# Altium footprint library BGA25CP40A5X5_201X201X60B26N.PcbLib: 1 footprints
Each footprint in its own frame and in the unit in brackets; x right, y up, seen from the top. Pads: shape width x height; smd on the part's side, far side on the other; paste and mask are expansions set on the pad; w line width, h text height; cw(c..) or ccw(c..) is an arc to the next point about the centre after c.
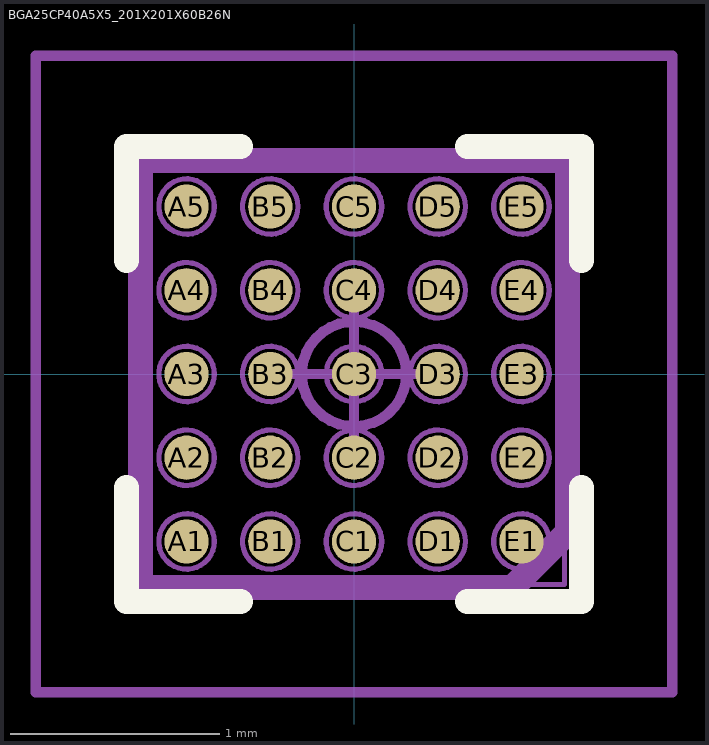
[diagram p0: the footprint, top view; thin cyan lines are the x and y axes]

## BGA25CP40A5X5_201X201X60B26N [mm] "Ball Grid Array (BGA), 0.40 mm pitch, square; 25 pin, 2.01 mm L X 2.01 mm W X 0.675 mm H Body"
height 0.675
pads (25):
  round 0.212 smd: A1(-0.8,-0.8) A2(-0.8,-0.4) A3(-0.8,0) A4(-0.8,0.4) A5(-0.8,0.8) B1(-0.4,-0.8) B2(-0.4,-0.4) B3(-0.4,0) B4(-0.4,0.4) B5(-0.4,0.8) C1(0,-0.8) C2(0,-0.4) C3(0,0) C4(0,0.4) C5(0,0.8) D1(0.4,-0.8) D2(0.4,-0.4) D3(0.4,0) D4(0.4,0.4) D5(0.4,0.8) E1(0.8,-0.8) E2(0.8,-0.4) E3(0.8,0) E4(0.8,0.4) E5(0.8,0.8)
Top Overlay:
  lines w0.12: -1.086,-0.543 -1.086,-1.086 -0.543,-1.086 ; -1.086,0.543 -1.086,1.086 -0.543,1.086 ; 0.543,-1.086 1.086,-1.086 1.086,-0.543 ; 0.543,1.086 1.086,1.086 1.086,0.543
Mechanical 3:
  lines w0.12: -1.02,-1.02 -1.02,1.02 1.02,1.02 1.02,-0.758 0.758,-1.02 -1.02,-1.02
Mechanical 5:
  circle w0.025: c-0.8,0.8 r0.132
  circle w0.025: c-0.8,0.4 r0.132
  circle w0.025: c-0.8,0 r0.132
  circle w0.025: c-0.8,-0.4 r0.132
  circle w0.025: c-0.8,-0.8 r0.132
  circle w0.025: c-0.4,0.8 r0.132
  circle w0.025: c-0.4,0.4 r0.132
  circle w0.025: c-0.4,0 r0.132
  circle w0.025: c-0.4,-0.4 r0.132
  circle w0.025: c-0.4,-0.8 r0.132
  circle w0.025: c0,0.8 r0.132
  circle w0.025: c0,0.4 r0.132
  circle w0.025: c0,0 r0.132
  circle w0.025: c0,-0.4 r0.132
  circle w0.025: c0,-0.8 r0.132
  circle w0.025: c0.4,0.8 r0.132
  circle w0.025: c0.4,0.4 r0.132
  circle w0.025: c0.4,0 r0.132
  circle w0.025: c0.4,-0.4 r0.132
  circle w0.025: c0.4,-0.8 r0.132
  circle w0.025: c0.8,0.8 r0.132
  circle w0.025: c0.8,0.4 r0.132
  circle w0.025: c0.8,0 r0.132
  circle w0.025: c0.8,-0.4 r0.132
  circle w0.025: c0.8,-0.8 r0.132
  lines w0.025: -1.005,-1.005 1.005,-1.005 1.005,1.005 -1.005,1.005 -1.005,-1.005
Mechanical 7:
  circle w0.05: c0,0 r0.25
  lines w0.05: -0.35,0 0.35,0 ; 0,-0.35 0,0.35 ; -1.52,-1.52 1.52,-1.52 1.52,1.52 -1.52,1.52 -1.52,-1.52
Mechanical 9:
  text "'.Designator'" at -5.944,-0.271 h1.02
3D body "BGA25CP40A5X5_201X201X60B26.STEP": height 0.67, standoff 0, extent -1.005,-1.005 1.005,1.005
3D body: height 0.68, standoff 0, extent -1.52,-1.52 1.52,1.52